# Altium footprint library SOIC.PCBLIB: 2 footprints
Each footprint in its own frame and in the unit in brackets; x right, y up, seen from the top. Pads: shape width x height; smd on the part's side, far side on the other; paste and mask are expansions set on the pad; w line width, h text height; cw(c..) or ccw(c..) is an arc to the next point about the centre after c.
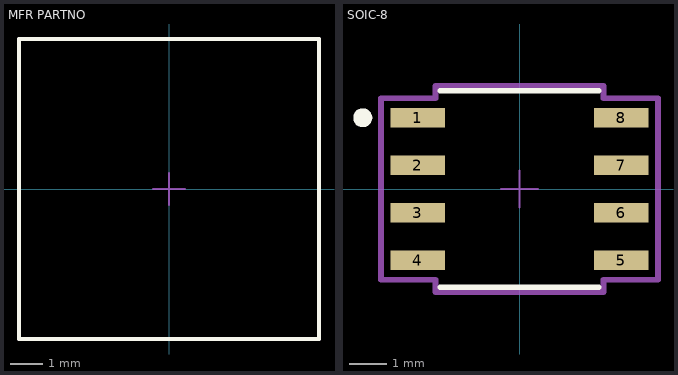
[diagram p0: the footprints below, top view; thin cyan lines are the x and y axes]

## MFR PARTNO [mil] "记得设置高度"
Top Overlay:
  lines w5: -185.04,-185.04 -185.04,185.04 185.04,185.04 185.04,-185.04 -185.04,-185.04
Top 元件外形:
  lines w5: -185.04,-185.04 185.04,-185.04 185.04,185.04 -185.04,185.04 -185.04,-185.04
Top 中心点:
  lines w2: -19.68,0 19.68,0 ; 0,-19.68 0,19.68

## SOIC-8 [mil]
pads (8):
  rect 57.28x20.97 smd paste-99999: 1(-107.14,75) 2(-107.14,25) 3(-107.14,-25) 4(-107.14,-75) 5(107.14,-75) 6(107.14,-25) 7(107.14,25) 8(107.14,75)
Top Overlay:
  circle w10: c-165,75 r5
  lines w6: -83.5,-103.5 83.5,-103.5 ; -83.5,103.5 83.5,103.5
Top 元件外形:
  lines w6: -145.78,-95.48 -145.78,95.48 -88.5,95.48 -88.5,108.5 88.5,108.5 88.5,95.48 145.78,95.48 145.78,-95.48 88.5,-95.48 88.5,-108.5 -88.5,-108.5 -88.5,-95.48 -145.78,-95.48
Top 中心点:
  lines w2: -19.68,0 19.68,0 ; 0,-19.68 0,19.68
3D body "21-0041B_8_MXM.step": height 69.09, standoff 0, extent -122.01,-98.5 122.01,98.5